# EAGLE library part PCF8584 (library i2c_95xx)
I²C Bus Controller
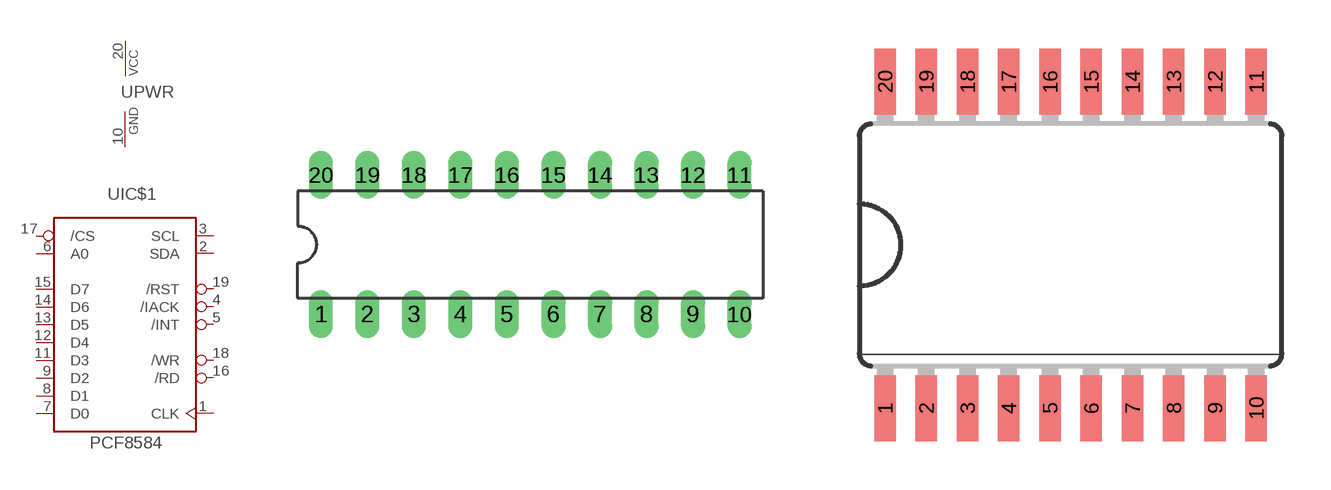
[diagram p0: symbol with the pads of DIL20; footprints DIL20, SO20W]

Designator prefix -; gates IC$1=PCF8584 PWR=PWRN

## PCF8584P  [DIL20]
1  IC$1:CLK  in
2  IC$1:SDA
3  IC$1:SCL
4  IC$1:/IACK  in
5  IC$1:/INT  out
6  IC$1:A0  in
7  IC$1:D0
8  IC$1:D1
9  IC$1:D2
10  PWR:GND  pwr
11  IC$1:D3
12  IC$1:D4
13  IC$1:D5
14  IC$1:D6
15  IC$1:D7
16  IC$1:/RD
17  IC$1:/CS  in
18  IC$1:/WR  in
19  IC$1:/RST
20  PWR:VCC  pwr

## PCF8584T  [SO20W]
Pads as for DIL20

## Footprint DIL20 (pad centres in mm)
drill 0.813 long: 1 -11.43,-3.81; 2 -8.89,-3.81; 3 -6.35,-3.81; 4 -3.81,-3.81; 5 -1.27,-3.81; 6 1.27,-3.81; 7 3.81,-3.81; 8 6.35,-3.81; 9 8.89,-3.81; 10 11.43,-3.81; 11 11.43,3.81; 12 8.89,3.81; 13 6.35,3.81; 14 3.81,3.81; 15 1.27,3.81; 16 -1.27,3.81; 17 -3.81,3.81; 18 -6.35,3.81; 19 -8.89,3.81; 20 -11.43,3.81

## Footprint SO20W (pad centres in mm)
smd 0.66 x 2.032: 1 -5.715,-5.029; 2 -4.445,-5.029; 3 -3.175,-5.029; 4 -1.905,-5.029; 5 -0.635,-5.029; 6 0.635,-5.029; 7 1.905,-5.029; 8 3.175,-5.029; 9 4.445,-5.029; 10 5.715,-5.029; 11 5.715,5.029; 12 4.445,5.029; 13 3.175,5.029; 14 1.905,5.029; 15 0.635,5.029; 16 -0.635,5.029; 17 -1.905,5.029; 18 -3.175,5.029; 19 -4.445,5.029; 20 -5.715,5.029